# EAGLE library part DNM10S0A0S10 (library DNM10S0A0S10)
DNM10S0A0S10 Delphi DNM series Non-Isolated Point of Load DC/DC Power Modules: 8.3-14Vin, 0.75-5.0V/10A out Manufacturer: Delta Electronics Inc Type: SMD
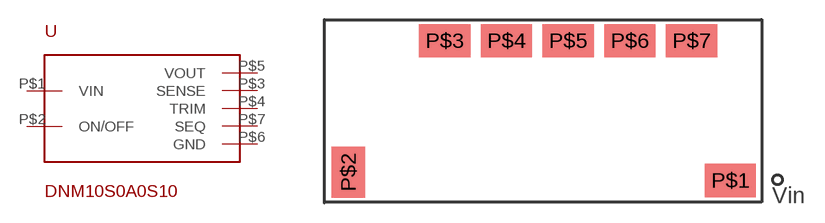
[diagram p0: symbol with the pads of DNM10S0A0S10; footprint DNM10S0A0S10]

Designator prefix -

## DNM10S0A0S10  [DNM10S0A0S10]
P$1  VIN
P$2  ON/OFF
P$3  SENSE
P$4  TRIM
P$5  VOUT
P$6  GND
P$7  SEQ

## Footprint DNM10S0A0S10 (pad centres in mm)
DNM10S0A0S10 Delphi DNM series Non-Isolated Point of Load DC/DC Power Modules: 8.3-14Vin, 0.75-5.0V/10A out Manufacturer: Delta Electronics Inc Type: SMD
smd 4 x 2.6: P$1 29.9,0; P$3 7.54,10.93; P$4 12.37,10.93; P$5 17.2,10.93; P$6 22.03,10.93; P$7 26.86,10.93
smd 2.6 x 4: P$2 0,0.64